# Altium footprint library Filter.PcbLib: 1 footprints
Each footprint in its own frame and in the unit in brackets; x right, y up, seen from the top. Pads: shape width x height; smd on the part's side, far side on the other; paste and mask are expansions set on the pad; w line width, h text height; cw(c..) or ccw(c..) is an arc to the next point about the centre after c.
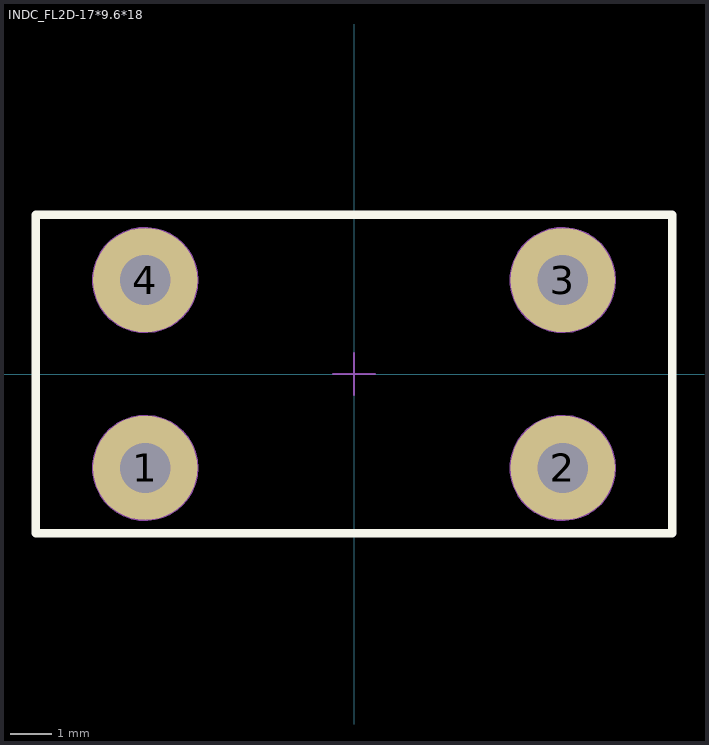
[diagram p0: the footprint, top view; thin cyan lines are the x and y axes]

## INDC_FL2D-17*9.6*18 [mm] "Common_Mode_Choke"
height 23.5
pads (4):
  round 2.5 hole 1.2: 1(-5,-2.25) 2(5,-2.25) 3(5,2.25) 4(-5,2.25)
Top Overlay:
  lines w0.2: -7.62,-3.81 7.62,-3.81 7.62,3.81 -7.62,3.81 -7.62,-3.81
Top HCB:
  circle w0.05: c-5,-2.25 r1.25
  circle w0.05: c5,-2.25 r1.25
  circle w0.05: c5,2.25 r1.25
  circle w0.05: c-5,2.25 r1.25
  lines w0.05: -0.5,0 0.5,0 ; 0,-0.5 0,0.5
3D body "45690.stp": height 15.95, standoff -4.05, extent -7.252,-3.75 7.253,3.75